# EAGLE library part NC4D-JP-DC5V (library fcch_eagle_parts_metal_mill)
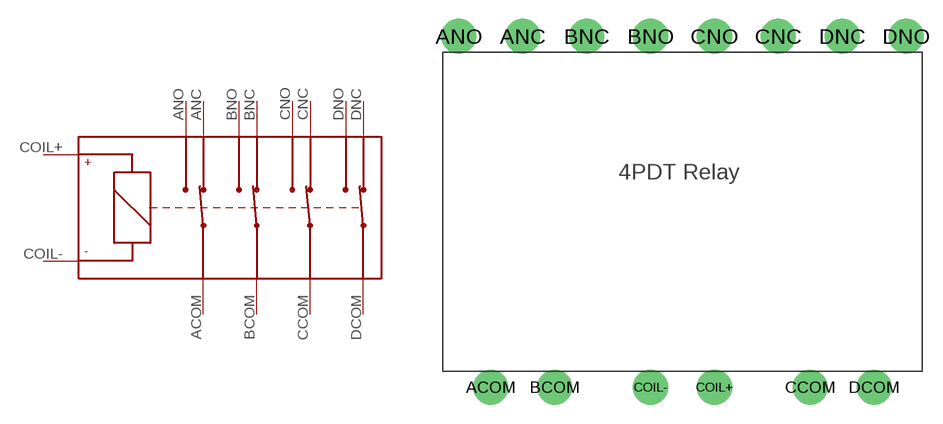
[diagram p7: symbol with the pads of NC4D-JP; footprint NC4D-JP]

Designator prefix -

## NC4D-JP-DC5V  [NC4D-JP]
ACOM  ACOM
ANC  ANC
ANO  ANO
BCOM  BCOM
BNC  BNC
BNO  BNO
CCOM  CCOM
CNC  CNC
CNO  CNO
COIL+  COIL+
COIL-  COIL-
DCOM  DCOM
DNC  DNC
DNO  DNO

## Footprint NC4D-JP (pad centres in mm)
drill 1.194 pad 2.794: ACOM -15.24,-13.97; ANC -12.7,13.97; ANO -17.78,13.97; BCOM -10.16,-13.97; BNC -7.62,13.97; BNO -2.54,13.97; CCOM 10.16,-13.97; CNC 7.62,13.97; CNO 2.54,13.97; COIL+ 2.54,-13.97; COIL- -2.54,-13.97; DCOM 15.24,-13.97; DNC 12.7,13.97; DNO 17.78,13.97